# Altium footprint library TO-263-2.PcbLib: 1 footprints
Each footprint in its own frame and in the unit in brackets; x right, y up, seen from the top. Pads: shape width x height; smd on the part's side, far side on the other; paste and mask are expansions set on the pad; w line width, h text height; cw(c..) or ccw(c..) is an arc to the next point about the centre after c.
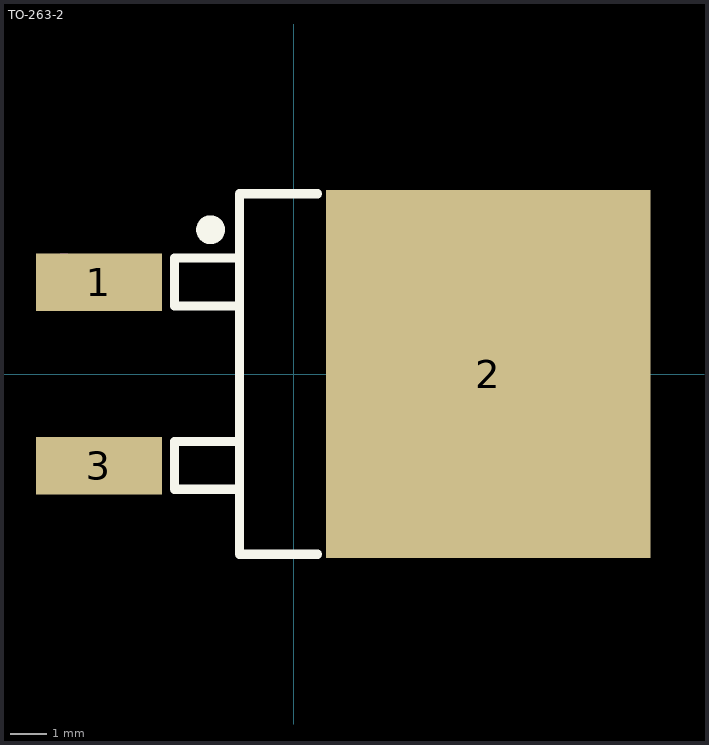
[diagram p0: the footprint, top view; thin cyan lines are the x and y axes]

## TO-263-2 [mm] "TO-263-2_L10.0-W9.2-P5.08-LS15.3-TL-CW"
pads (3):
  rect 3.5x1.6 smd paste+0 mask+0.051: 1(-5.397,2.54) 3(-5.397,-2.54)
  rect 9x10.2 smd paste+0 mask+0.051: 2(5.397,0)
Top Overlay:
  circle w0.4: c-2.3,4 r0.2
  lines w0.254: -1.5,-3.194 -3.301,-3.194 -3.301,-1.868 -1.5,-1.868 ; -1.5,1.886 -3.301,1.886 -3.301,3.212 -1.5,3.212 ; 0.666,-5 -1.5,-5 -1.5,5 0.666,5
Mechanical 15:
  circle w0.8: c-6.35,2.54 r0.4